# EAGLE library part SAM4EXE (library atmel_sam)
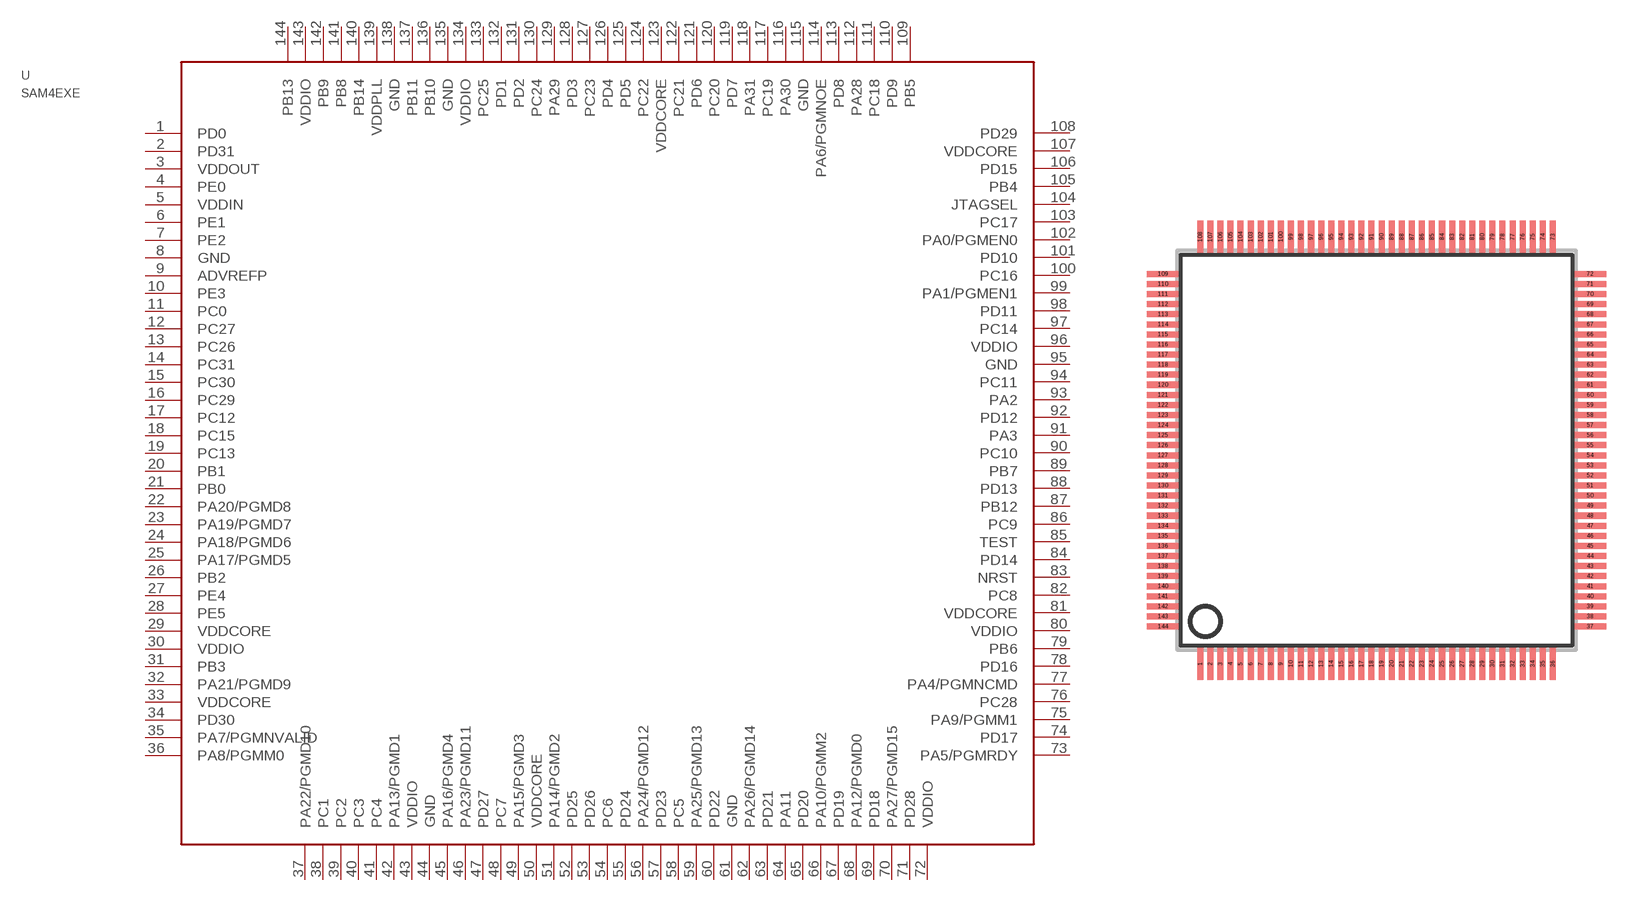
[diagram p7: symbol with the pads of LQFP144; footprint LQFP144]

Designator prefix U

## SAM4EXE  [LQFP144]
1  PD0
2  PD31
3  VDDOUT
4  PE0
5  VDDIN
6  PE1
7  PE2
8  GND
9  ADVREFP
10  PE3
11  PC0
12  PC27
13  PC26
14  PC31
15  PC30
16  PC29
17  PC12
18  PC15
19  PC13
20  PB1
21  PB0
22  PA20/PGMD8
23  PA19/PGMD7
24  PA18/PGMD6
25  PA17/PGMD5
26  PB2
27  PE4
28  PE5
29  VDDCORE
30  VDDIO
31  PB3
32  PA21/PGMD9
33  VDDCORE
34  PD30
35  PA7/PGMNVALID
36  PA8/PGMM0
37  PA22/PGMD10
38  PC1
39  PC2
40  PC3
41  PC4
42  PA13/PGMD1
43  VDDIO
44  GND
45  PA16/PGMD4
46  PA23/PGMD11
47  PD27
48  PC7
49  PA15/PGMD3
50  VDDCORE
51  PA14/PGMD2
52  PD25
53  PD26
54  PC6
55  PD24
56  PA24/PGMD12
57  PD23
58  PC5
59  PA25/PGMD13
60  PD22
61  GND
62  PA26/PGMD14
63  PD21
64  PA11
65  PD20
66  PA10/PGMM2
67  PD19
68  PA12/PGMD0
69  PD18
70  PA27/PGMD15
71  PD28
72  VDDIO
73  PA5/PGMRDY
74  PD17
75  PA9/PGMM1
76  PC28
77  PA4/PGMNCMD
78  PD16
79  PB6
80  VDDIO
81  VDDCORE
82  PC8
83  NRST
84  PD14
85  TEST
86  PC9
87  PB12
88  PD13
89  PB7
90  PC10
91  PA3
92  PD12
93  PA2
94  PC11
95  GND
96  VDDIO
97  PC14
98  PD11
99  PA1/PGMEN1
100  PC16
101  PD10
102  PA0/PGMEN0
103  PC17
104  JTAGSEL
105  PB4
106  PD15
107  VDDCORE
108  PD29
109  PB5
110  PD9
111  PC18
112  PA28
113  PD8
114  PA6/PGMNOE
115  GND
116  PA30
117  PC19
118  PA31
119  PD7
120  PC20
121  PD6
122  PC21
123  VDDCORE
124  PC22
125  PD5
126  PD4
127  PC23
128  PD3
129  PA29
130  PC24
131  PD2
132  PD1
133  PC25
134  VDDIO
135  GND
136  PB10
137  PB11
138  GND
139  VDDPLL
140  PB14
141  PB8
142  PB9
143  VDDIO
144  PB13

## Footprint LQFP144 (pad centres in mm)
smd 0.3 x 1.6: 1 -8.75,-10.6; 2 -8.25,-10.6; 3 -7.75,-10.6; 4 -7.25,-10.6; 5 -6.75,-10.6; 6 -6.25,-10.6; 7 -5.75,-10.6; 8 -5.25,-10.6; 9 -4.75,-10.6; 10 -4.25,-10.6; 11 -3.75,-10.6; 12 -3.25,-10.6; 13 -2.75,-10.6; 14 -2.25,-10.6; 15 -1.75,-10.6; 16 -1.25,-10.6; 17 -0.75,-10.6; 18 -0.25,-10.6; 19 0.25,-10.6; 20 0.75,-10.6; 21 1.25,-10.6; 22 1.75,-10.6; 23 2.25,-10.6; 24 2.75,-10.6; 25 3.25,-10.6; 26 3.75,-10.6; 27 4.25,-10.6; 28 4.75,-10.6; 29 5.25,-10.6; 30 5.75,-10.6; 31 6.25,-10.6; 32 6.75,-10.6; 33 7.25,-10.6; 34 7.75,-10.6; 35 8.25,-10.6; 36 8.75,-10.6; 73 8.75,10.6; 74 8.25,10.6; 75 7.75,10.6; 76 7.25,10.6; 77 6.75,10.6; 78 6.25,10.6; 79 5.75,10.6; 80 5.25,10.6; 81 4.75,10.6; 82 4.25,10.6; 83 3.75,10.6; 84 3.25,10.6; 85 2.75,10.6; 86 2.25,10.6; 87 1.75,10.6; 88 1.25,10.6; 89 0.75,10.6; 90 0.25,10.6; 91 -0.25,10.6; 92 -0.75,10.6; 93 -1.25,10.6; 94 -1.75,10.6; 95 -2.25,10.6; 96 -2.75,10.6; 97 -3.25,10.6; 98 -3.75,10.6; 99 -4.25,10.6; 100 -4.75,10.6; 101 -5.25,10.6; 102 -5.75,10.6; 103 -6.25,10.6; 104 -6.75,10.6; 105 -7.25,10.6; 106 -7.75,10.6; 107 -8.25,10.6; 108 -8.75,10.6
smd 1.6 x 0.3: 37 10.6,-8.75; 38 10.6,-8.25; 39 10.6,-7.75; 40 10.6,-7.25; 41 10.6,-6.75; 42 10.6,-6.25; 43 10.6,-5.75; 44 10.6,-5.25; 45 10.6,-4.75; 46 10.6,-4.25; 47 10.6,-3.75; 48 10.6,-3.25; 49 10.6,-2.75; 50 10.6,-2.25; 51 10.6,-1.75; 52 10.6,-1.25; 53 10.6,-0.75; 54 10.6,-0.25; 55 10.6,0.25; 56 10.6,0.75; 57 10.6,1.25; 58 10.6,1.75; 59 10.6,2.25; 60 10.6,2.75; 61 10.6,3.25; 62 10.6,3.75; 63 10.6,4.25; 64 10.6,4.75; 65 10.6,5.25; 66 10.6,5.75; 67 10.6,6.25; 68 10.6,6.75; 69 10.6,7.25; 70 10.6,7.75; 71 10.6,8.25; 72 10.6,8.75; 109 -10.6,8.75; 110 -10.6,8.25; 111 -10.6,7.75; 112 -10.6,7.25; 113 -10.6,6.75; 114 -10.6,6.25; 115 -10.6,5.75; 116 -10.6,5.25; 117 -10.6,4.75; 118 -10.6,4.25; 119 -10.6,3.75; 120 -10.6,3.25; 121 -10.6,2.75; 122 -10.6,2.25; 123 -10.6,1.75; 124 -10.6,1.25; 125 -10.6,0.75; 126 -10.6,0.25; 127 -10.6,-0.25; 128 -10.6,-0.75; 129 -10.6,-1.25; 130 -10.6,-1.75; 131 -10.6,-2.25; 132 -10.6,-2.75; 133 -10.6,-3.25; 134 -10.6,-3.75; 135 -10.6,-4.25; 136 -10.6,-4.75; 137 -10.6,-5.25; 138 -10.6,-5.75; 139 -10.6,-6.25; 140 -10.6,-6.75; 141 -10.6,-7.25; 142 -10.6,-7.75; 143 -10.6,-8.25; 144 -10.6,-8.75